# Altium footprint library Common-Parts-Library.PcbLib: 530 footprints (part 5 of 34)
Each footprint in its own frame and in the unit in brackets; x right, y up, seen from the top. Pads: shape width x height; smd on the part's side, far side on the other; paste and mask are expansions set on the pad; w line width, h text height; cw(c..) or ccw(c..) is an arc to the next point about the centre after c.
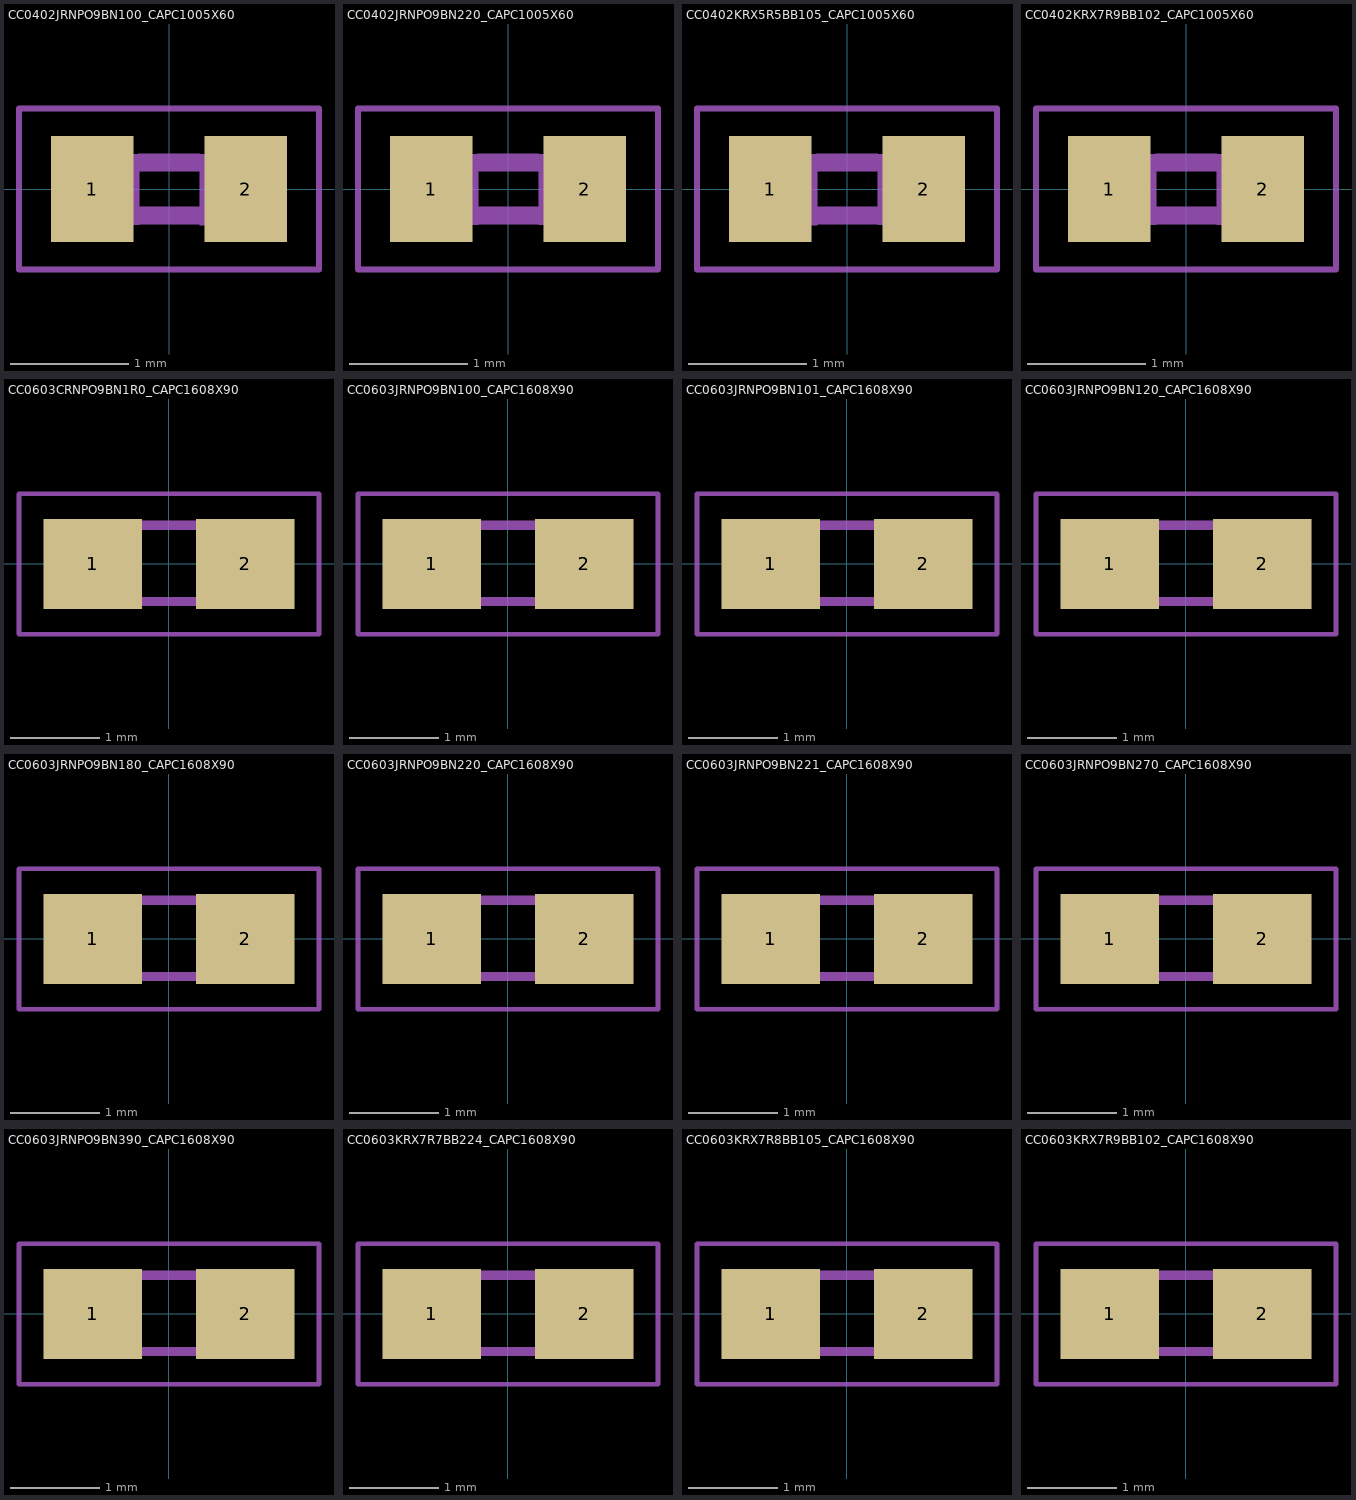
[diagram p4: the footprints below, top view; thin cyan lines are the x and y axes]

## CC0402JRNPO9BN100_CAPC1005X60 [mm]
pads (2):
  rect 0.7x0.9 smd: 1(-0.65,0) 2(0.65,0)
Mechanical 1:
  region: 0.26,0.295 0.559,0.295 0.559,-0.306 0.26,-0.306
  region: -0.555,0.295 -0.254,0.295 -0.254,-0.305 -0.555,-0.305
  lines w0.051: -1.273,-0.683 -1.273,0.683 1.273,0.683 1.273,-0.683 -1.273,-0.683
  lines w0.152: -0.245,-0.224 0.245,-0.224 ; -0.245,0.224 0.245,0.224

## CC0402JRNPO9BN220_CAPC1005X60 [mm]
pads (2):
  rect 0.7x0.9 smd: 1(-0.65,0) 2(0.65,0)
Mechanical 1:
  region: 0.259,0.295 0.559,0.295 0.559,-0.305 0.259,-0.305
  region: -0.554,0.295 -0.254,0.295 -0.254,-0.305 -0.554,-0.305
  lines w0.051: -1.273,-0.683 -1.273,0.683 1.273,0.683 1.273,-0.683 -1.273,-0.683
  lines w0.152: -0.245,-0.224 0.245,-0.224 ; -0.245,0.224 0.245,0.224

## CC0402KRX5R5BB105_CAPC1005X60 [mm]
pads (2):
  rect 0.7x0.9 smd: 1(-0.65,0) 2(0.65,0)
Mechanical 1:
  region: 0.259,0.295 0.559,0.295 0.559,-0.305 0.259,-0.305
  region: -0.556,0.295 -0.254,0.295 -0.254,-0.306 -0.556,-0.306
  lines w0.051: -1.273,-0.683 -1.273,0.683 1.273,0.683 1.273,-0.683 -1.273,-0.683
  lines w0.152: -0.245,-0.224 0.245,-0.224 ; -0.245,0.224 0.245,0.224

## CC0402KRX7R9BB102_CAPC1005X60 [mm]
pads (2):
  rect 0.7x0.9 smd: 1(-0.65,0) 2(0.65,0)
Mechanical 1:
  region: 0.259,0.295 0.559,0.295 0.559,-0.305 0.259,-0.305
  region: -0.555,0.295 -0.254,0.295 -0.254,-0.305 -0.555,-0.305
  lines w0.051: -1.273,-0.683 -1.273,0.683 1.273,0.683 1.273,-0.683 -1.273,-0.683
  lines w0.152: -0.245,-0.224 0.245,-0.224 ; -0.245,0.224 0.245,0.224

## CC0603CRNPO9BN1R0_CAPC1608X90 [mm]
pads (2):
  rect 1.1x1 smd: 1(-0.85,0) 2(0.85,0)
Mechanical 1:
  region: 0.331,0.48 0.83,0.48 0.83,-0.471 0.331,-0.471
  region: -0.839,0.48 -0.338,0.48 -0.338,-0.47 -0.839,-0.47
  lines w0.051: -1.673,-0.783 -1.673,0.783 1.673,0.783 1.673,-0.783 -1.673,-0.783
  lines w0.102: -0.356,-0.419 0.356,-0.419 ; -0.356,0.432 0.356,0.432

## CC0603JRNPO9BN100_CAPC1608X90 [mm]
pads (2):
  rect 1.1x1 smd: 1(-0.85,0) 2(0.85,0)
Mechanical 1:
  region: 0.331,0.48 0.83,0.48 0.83,-0.471 0.331,-0.471
  region: -0.84,0.48 -0.338,0.48 -0.338,-0.471 -0.84,-0.471
  lines w0.051: -1.673,-0.783 -1.673,0.783 1.673,0.783 1.673,-0.783 -1.673,-0.783
  lines w0.102: -0.356,-0.419 0.356,-0.419 ; -0.356,0.432 0.356,0.432

## CC0603JRNPO9BN101_CAPC1608X90 [mm]
pads (2):
  rect 1.1x1 smd: 1(-0.85,0) 2(0.85,0)
Mechanical 1:
  region: 0.331,0.48 0.83,0.48 0.83,-0.471 0.331,-0.471
  region: -0.84,0.48 -0.338,0.48 -0.338,-0.471 -0.84,-0.471
  lines w0.051: -1.673,-0.783 -1.673,0.783 1.673,0.783 1.673,-0.783 -1.673,-0.783
  lines w0.102: -0.356,-0.419 0.356,-0.419 ; -0.356,0.432 0.356,0.432

## CC0603JRNPO9BN120_CAPC1608X90 [mm]
pads (2):
  rect 1.1x1 smd: 1(-0.85,0) 2(0.85,0)
Mechanical 1:
  region: 0.331,0.48 0.83,0.48 0.83,-0.471 0.331,-0.471
  region: -0.841,0.48 -0.338,0.48 -0.338,-0.471 -0.841,-0.471
  lines w0.051: -1.673,-0.783 -1.673,0.783 1.673,0.783 1.673,-0.783 -1.673,-0.783
  lines w0.102: -0.356,-0.419 0.356,-0.419 ; -0.356,0.432 0.356,0.432

## CC0603JRNPO9BN180_CAPC1608X90 [mm]
pads (2):
  rect 1.1x1 smd: 1(-0.85,0) 2(0.85,0)
Mechanical 1:
  region: 0.331,0.48 0.83,0.48 0.83,-0.471 0.331,-0.471
  region: -0.841,0.48 -0.338,0.48 -0.338,-0.471 -0.841,-0.471
  lines w0.051: -1.673,-0.783 -1.673,0.783 1.673,0.783 1.673,-0.783 -1.673,-0.783
  lines w0.102: -0.356,-0.419 0.356,-0.419 ; -0.356,0.432 0.356,0.432

## CC0603JRNPO9BN220_CAPC1608X90 [mm]
pads (2):
  rect 1.1x1 smd: 1(-0.85,0) 2(0.85,0)
Mechanical 1:
  region: 0.331,0.48 0.83,0.48 0.83,-0.471 0.331,-0.471
  region: -0.841,0.48 -0.338,0.48 -0.338,-0.471 -0.841,-0.471
  lines w0.051: -1.673,-0.783 -1.673,0.783 1.673,0.783 1.673,-0.783 -1.673,-0.783
  lines w0.102: -0.356,-0.419 0.356,-0.419 ; -0.356,0.432 0.356,0.432

## CC0603JRNPO9BN221_CAPC1608X90 [mm]
pads (2):
  rect 1.1x1 smd: 1(-0.85,0) 2(0.85,0)
Mechanical 1:
  region: 0.331,0.48 0.83,0.48 0.83,-0.471 0.331,-0.471
  region: -0.84,0.48 -0.338,0.48 -0.338,-0.471 -0.84,-0.471
  lines w0.051: -1.673,-0.783 -1.673,0.783 1.673,0.783 1.673,-0.783 -1.673,-0.783
  lines w0.102: -0.356,-0.419 0.356,-0.419 ; -0.356,0.432 0.356,0.432

## CC0603JRNPO9BN270_CAPC1608X90 [mm]
pads (2):
  rect 1.1x1 smd: 1(-0.85,0) 2(0.85,0)
Mechanical 1:
  region: 0.331,0.48 0.83,0.48 0.83,-0.471 0.331,-0.471
  region: -0.84,0.48 -0.338,0.48 -0.338,-0.471 -0.84,-0.471
  lines w0.051: -1.673,-0.783 -1.673,0.783 1.673,0.783 1.673,-0.783 -1.673,-0.783
  lines w0.102: -0.356,-0.419 0.356,-0.419 ; -0.356,0.432 0.356,0.432

## CC0603JRNPO9BN390_CAPC1608X90 [mm]
pads (2):
  rect 1.1x1 smd: 1(-0.85,0) 2(0.85,0)
Mechanical 1:
  region: 0.331,0.48 0.83,0.48 0.83,-0.471 0.331,-0.471
  region: -0.84,0.48 -0.338,0.48 -0.338,-0.471 -0.84,-0.471
  lines w0.051: -1.673,-0.783 -1.673,0.783 1.673,0.783 1.673,-0.783 -1.673,-0.783
  lines w0.102: -0.356,-0.419 0.356,-0.419 ; -0.356,0.432 0.356,0.432

## CC0603KRX7R7BB224_CAPC1608X90 [mm]
pads (2):
  rect 1.1x1 smd: 1(-0.85,0) 2(0.85,0)
Mechanical 1:
  region: 0.331,0.48 0.83,0.48 0.83,-0.47 0.331,-0.47
  region: -0.841,0.48 -0.338,0.48 -0.338,-0.471 -0.841,-0.471
  lines w0.051: -1.673,-0.783 -1.673,0.783 1.673,0.783 1.673,-0.783 -1.673,-0.783
  lines w0.102: -0.356,-0.419 0.356,-0.419 ; -0.356,0.432 0.356,0.432

## CC0603KRX7R8BB105_CAPC1608X90 [mm]
pads (2):
  rect 1.1x1 smd: 1(-0.85,0) 2(0.85,0)
Mechanical 1:
  region: 0.331,0.48 0.83,0.48 0.83,-0.471 0.331,-0.471
  region: -0.841,0.48 -0.338,0.48 -0.338,-0.471 -0.841,-0.471
  lines w0.051: -1.673,-0.783 -1.673,0.783 1.673,0.783 1.673,-0.783 -1.673,-0.783
  lines w0.102: -0.356,-0.419 0.356,-0.419 ; -0.356,0.432 0.356,0.432

## CC0603KRX7R9BB102_CAPC1608X90 [mm]
pads (2):
  rect 1.1x1 smd: 1(-0.85,0) 2(0.85,0)
Mechanical 1:
  region: 0.33,0.48 0.83,0.48 0.83,-0.47 0.33,-0.47
  region: -0.841,0.48 -0.338,0.48 -0.338,-0.472 -0.841,-0.472
  lines w0.051: -1.673,-0.783 -1.673,0.783 1.673,0.783 1.673,-0.783 -1.673,-0.783
  lines w0.102: -0.356,-0.419 0.356,-0.419 ; -0.356,0.432 0.356,0.432